# Altium schematic symbol library 3224W1103E.Schlib: 1 symbol
Pins are listed as number, name and electrical type; pins without a type are passive.

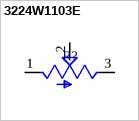
[diagram p0: symbol 3224W1103E]

## 3224W1103E
designator R?
Res Cermet Trimmer 10K Ohm 10% 0.25W(1/4W) 12(Elec)Turns 1.5mm (4.8 X 3.9 X 5.3mm) J-Hook SMD T/R
pins: 1, 2, 3